# Altium footprint library DSUB9-F90.PcbLib: 1 footprints
Each footprint in its own frame and in the unit in brackets; x right, y up, seen from the top. Pads: shape width x height; smd on the part's side, far side on the other; paste and mask are expansions set on the pad; w line width, h text height; cw(c..) or ccw(c..) is an arc to the next point about the centre after c.
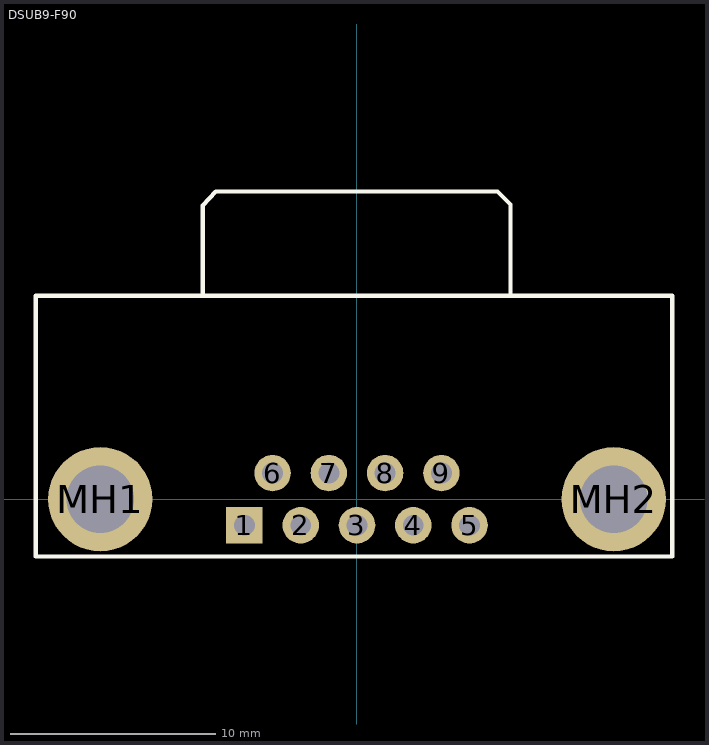
[diagram p0: the footprint, top view; thin cyan lines are the x and y axes]

## DSUB9-F90 [mil]
pads (11):
  rect 70x70 hole 40: 1(-215.75,-50)
  round 70 hole 40: 2(-107.87,-50) 3(0,-50) 4(107.87,-50) 5(215.75,-50) 6(-161.81,50) 7(-53.94,50) 8(53.94,50) 9(161.81,50)
  round 200 hole 130: MH1(-492.13,0) MH2(492.13,0)
TopOverlay:
  lines w8: -295.75,390 -295.75,563.23 -270.75,590 269.25,590 294.25,565 294.25,390 ; -615.75,-110 604.25,-110 604.25,390 -615.75,390 -615.75,-110